# Altium footprint library modules.pcblib: 4 footprints
Each footprint in its own frame and in the unit in brackets; x right, y up, seen from the top. Pads: shape width x height; smd on the part's side, far side on the other; paste and mask are expansions set on the pad; w line width, h text height; cw(c..) or ccw(c..) is an arc to the next point about the centre after c.
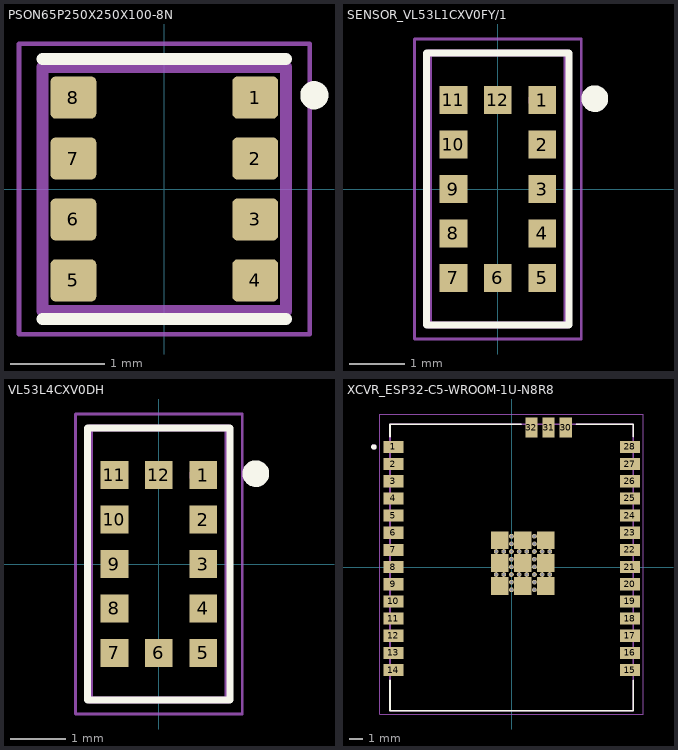
[diagram p0: the footprints below, top view; thin cyan lines are the x and y axes]

## PSON65P250X250X100-8N [mm]
pads (8):
  rrect25% 0.49x0.45 smd: 1(0.97,0.975) 2(0.97,0.325) 3(0.97,-0.325) 4(0.97,-0.975) 5(-0.97,-0.975) 6(-0.97,-0.325) 7(-0.97,0.325) 8(-0.97,0.975)
Top Overlay:
  circle w0.2: c1.6,1 r0.05
  lines w0.127: -1.3,-1.385 1.3,-1.385 ; -1.3,1.385 1.3,1.385
Plata3D:
  circle w0.2: c1,1 r0.05
  lines w0.127: -1.3,-1.3 -1.3,1.3 1.3,1.3 1.3,-1.3 -1.3,-1.3
Board3D:
  lines w0.05: -1.55,-1.55 1.55,-1.55 1.55,1.55 -1.55,1.55 -1.55,-1.55
3D body "BME280--3DModel-STEP-56544.STEP": height 1, standoff 0, extent -1.225,-1.275 1.275,1.225

## SENSOR_VL53L1CXV0FY/1 [mm]
pads (12):
  rect 0.5x0.5 smd: 1(0.8,1.6) 2(0.8,0.8) 3(0.8,0) 4(0.8,-0.8) 5(0.8,-1.6) 6(0,-1.6) 7(-0.8,-1.6) 8(-0.8,-0.8) 9(-0.8,0) 10(-0.8,0.8) 11(-0.8,1.6) 12(0,1.6)
Top Overlay:
  circle w0.24: c1.746,1.627 r0.12
  lines w0.127: -1.28,-2.45 1.28,-2.45 1.28,2.45 -1.28,2.45 -1.28,-2.45
Plata3D:
  circle w0.3: c0.8,1.6 r0.1
  lines w0.127: -1.25,-2.45 -1.25,2.45 1.25,2.45 1.25,-2.45 -1.25,-2.45
Board3D:
  lines w0.05: -1.5,-2.7 -1.5,2.7 1.5,2.7 1.5,-2.7 -1.5,-2.7
3D body "User Library-vl53l1x.STEP": height 1.46, standoff -0.13, extent -1.25,-2.45 1.25,2.45

## VL53L4CXV0DH [mm]
pads (12):
  rect 0.5x0.5 smd: 1(0.8,1.6) 2(0.8,0.8) 3(0.8,0) 4(0.8,-0.8) 5(0.8,-1.6) 6(0,-1.6) 7(-0.8,-1.6) 8(-0.8,-0.8) 9(-0.8,0) 10(-0.8,0.8) 11(-0.8,1.6) 12(0,1.6)
Top Overlay:
  circle w0.24: c1.746,1.627 r0.12
  lines w0.127: -1.28,-2.45 -1.28,2.45 1.28,2.45 1.28,-2.45 -1.28,-2.45
Plata3D:
  circle w0.3: c0.8,1.6 r0.1
  lines w0.127: -1.25,-2.45 1.25,-2.45 1.25,2.45 -1.25,2.45 -1.25,-2.45
Board3D:
  lines w0.05: -1.5,-2.7 1.5,-2.7 1.5,2.7 -1.5,2.7 -1.5,-2.7
3D body "LGA12_VL53L4CXV9DH1_STM.step": height 1.04, standoff 0, extent -1.219,-2.222 1.219,2.222

## XCVR_ESP32-C5-WROOM-1U-N8R8 [mm]
height 3.45
pads (68):
  rect 1.5x0.9 smd: 1(-8.75,8.91) 2(-8.75,7.64) 3(-8.75,6.37) 4(-8.75,5.1) 5(-8.75,3.83) 6(-8.75,2.56) 7(-8.75,1.29) 8(-8.75,0.02) 9(-8.75,-1.25) 10(-8.75,-2.52) 11(-8.75,-3.79) 12(-8.75,-5.06) 13(-8.75,-6.33) 14(-8.75,-7.6) 15(8.75,-7.6) 16(8.75,-6.33) 17(8.75,-5.06) 18(8.75,-3.79) 19(8.75,-2.52) 20(8.75,-1.25) 21(8.75,0.02) 22(8.75,1.29) 23(8.75,2.56) 24(8.75,3.83) 25(8.75,5.1) 26(8.75,6.37) 27(8.75,7.64) 28(8.75,8.91)
  rect 1.3x1.3 smd: 29_1(-0.87,2.022) 29_2(0.83,2.022) 29_3(2.53,2.022) 29_4(-0.87,0.322) 29_5(0.83,0.322) 29_6(2.53,0.322) 29_7(-0.87,-1.378) 29_8(0.83,-1.378) 29_9(2.53,-1.378)
  round 0.35 hole 0.25 mask+0: 29_10(-0.02,2.304) 29_11(-0.02,1.738) 29_12(1.68,2.304) 29_13(1.68,1.738) 29_14(-1.152,1.172) 29_15(-0.586,1.172) 29_16(-0.02,1.172) 29_17(0.547,1.172) 29_18(1.113,1.172) 29_19(1.68,1.172) 29_20(2.246,1.172) 29_21(2.812,1.172) 29_22(-0.02,0.605) 29_23(-0.02,0.039) 29_24(1.68,0.605) 29_25(1.68,0.039) 29_26(-1.152,-0.528) 29_27(-0.586,-0.528) 29_28(-0.02,-0.528) 29_29(0.547,-0.528) 29_30(1.113,-0.528) 29_31(1.68,-0.528) 29_32(2.246,-0.528) 29_33(2.812,-0.528) 29_34(-0.02,-1.094) 29_35(-0.02,-1.66) 29_36(1.68,-1.094) 29_37(1.68,-1.66)
  rect 0.9x1.5 smd: 30(4,10.35) 31(2.73,10.35) 32(1.46,10.35)
Top Overlay:
  circle w0.2: c-10.2,8.91 r0.1
  lines w0.127: -9,-8.37 -9,-10.6 9,-10.6 9,-8.37 ; -9,9.68 -9,10.6 0.69,10.6 ; 4.77,10.6 9,10.6 9,9.68
Plata3D:
  circle w0.2: c-10.2,8.91 r0.1
  lines w0.127: -9,-10.6 9,-10.6 9,10.6 -9,10.6 -9,-10.6
Board3D:
  lines w0.05: -9.75,-10.85 -9.75,11.35 9.75,11.35 9.75,-10.85 -9.75,-10.85
3D body "esp32-c5-wroom-1.step": height 3.33, standoff -0.01, extent -9,-10.541 9,16.959